# Altium footprint library C0402C689C5GACTU.PcbLib: 3 footprints
Each footprint in its own frame and in the unit in brackets; x right, y up, seen from the top. Pads: shape width x height; smd on the part's side, far side on the other; paste and mask are expansions set on the pad; w line width, h text height; cw(c..) or ccw(c..) is an arc to the next point about the centre after c.
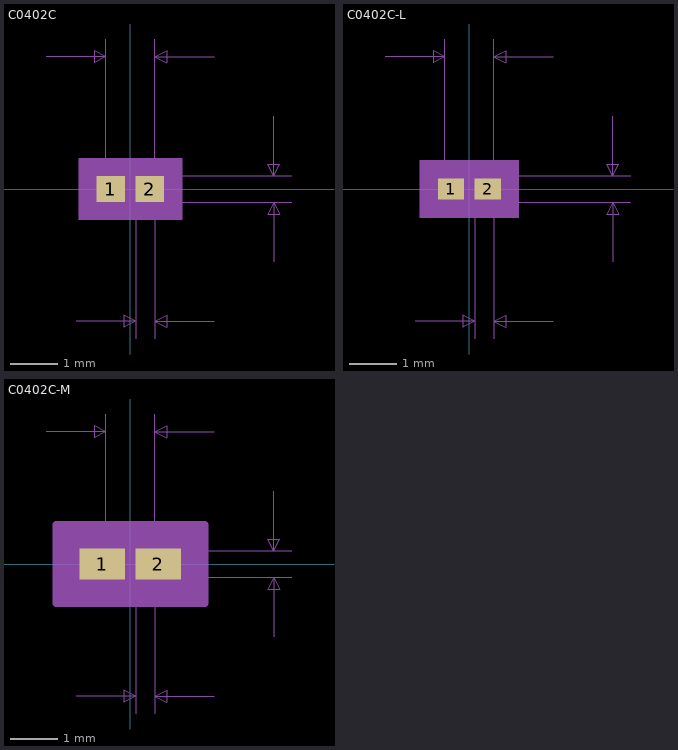
[diagram p0: the footprints below, top view; thin cyan lines are the x and y axes]

## C0402C [mil]
pads (2):
  rect 24x22 smd paste+0 mask+0: 1(-16.5,0) 2(16.5,0)
Mechanical 5:
  region: 43.5,-26 -43.5,-26 -43.5,26 43.5,26
Mechanical 7:
  lines w1: -70.5,111 -20.5,111 ; -45.5,-111 4.5,-111 ; -20.5,0 -20.5,126 ; 0,-11 135.5,-11 ; 0,11 135.5,11 ; 4.5,-126 4.5,0 ; 20.5,-126 20.5,0 20.5,126 ; 70.5,-111 20.5,-111 ; 70.5,111 20.5,111 ; 120.5,-61 120.5,-11 ; 120.5,61 120.5,11 ; -20.5,111 -30.5,116 -30.5,106 -20.5,111 ; 4.5,-111 -5.5,-106 -5.5,-116 4.5,-111 ; 20.5,-111 30.5,-106 30.5,-116 20.5,-111 ; 20.5,111 30.5,116 30.5,106 20.5,111 ; 120.5,-11 115.5,-21 125.5,-21 120.5,-11 ; 120.5,11 115.5,21 125.5,21 120.5,11
  text "Default Padstyle: RX24Y22D0T" at -350,-281 h50
  text "Alternate 1 Padstyle: OX60Y90D30P" at -412.5,-381 h50
  text "Alternate 2 Padstyle: OX90Y60D30P" at -412.5,-481 h50
  text "0.022in/0.559mm" at 140.5,-12.5 h25
  text "0.041in/1.041mm" at -93.75,131 h25
  text "0.016in/0.406mm" at -81.25,-156 h25
Mechanical 13:
  lines w1: -20.5,-11 -20.5,11 ; -20.5,-11 -4.5,-11 -4.5,11 -20.5,11 ; -20.5,-11 20.5,-11 ; -20.5,-11 -20.5,11 ; -20.5,11 20.5,11 ; 20.5,-11 4.5,-11 4.5,11 20.5,11 ; 20.5,-11 20.5,11 ; 20.5,-11 20.5,11
Mechanical 15:
  region: 38.5,-21 -38.5,-21 -38.5,21 38.5,21
  lines w6: -38.5,-21 -38.5,21 38.5,21 38.5,-21 -38.5,-21
3D body: height 10, standoff 0, extent 0,0 10,10

## C0402C-L [mil]
pads (2):
  rect 22x18 smd paste+0 mask+0: 1(-15.5,0) 2(15.5,0)
Mechanical 5:
  region: 41.5,-24 -41.5,-24 -41.5,24 41.5,24
Mechanical 7:
  lines w1: -70.5,111 -20.5,111 ; -45.5,-111 4.5,-111 ; -20.5,0 -20.5,126 ; 0,-11 135.5,-11 ; 0,11 135.5,11 ; 4.5,-126 4.5,0 ; 20.5,-126 20.5,0 20.5,126 ; 70.5,-111 20.5,-111 ; 70.5,111 20.5,111 ; 120.5,-61 120.5,-11 ; 120.5,61 120.5,11 ; -20.5,111 -30.5,116 -30.5,106 -20.5,111 ; 4.5,-111 -5.5,-106 -5.5,-116 4.5,-111 ; 20.5,-111 30.5,-106 30.5,-116 20.5,-111 ; 20.5,111 30.5,116 30.5,106 20.5,111 ; 120.5,-11 115.5,-21 125.5,-21 120.5,-11 ; 120.5,11 115.5,21 125.5,21 120.5,11
  text "Default Padstyle: RX22Y18D0T" at -350,-279 h50
  text "Alternate 1 Padstyle: OX60Y90D30P" at -412.5,-379 h50
  text "Alternate 2 Padstyle: OX90Y60D30P" at -412.5,-479 h50
  text "0.022in/0.559mm" at 140.5,-12.5 h25
  text "0.041in/1.041mm" at -93.75,131 h25
  text "0.016in/0.406mm" at -81.25,-156 h25
Mechanical 13:
  lines w1: -20.5,-11 -20.5,11 ; -20.5,-11 -4.5,-11 -4.5,11 -20.5,11 ; -20.5,-11 20.5,-11 ; -20.5,-11 -20.5,11 ; -20.5,11 20.5,11 ; 20.5,-11 4.5,-11 4.5,11 20.5,11 ; 20.5,-11 20.5,11 ; 20.5,-11 20.5,11
Mechanical 15:
  region: 30.5,-13 -30.5,-13 -30.5,13 30.5,13
  lines w6: -30.5,-13 -30.5,13 30.5,13 30.5,-13 -30.5,-13
3D body: height 10, standoff 0, extent 0,0 10,10

## C0402C-M [mil]
pads (2):
  rect 38x26 smd paste+0 mask+0: 1(-23.5,0) 2(23.5,0)
Mechanical 5:
  region: 57.5,-28 -57.5,-28 -57.5,28 57.5,28
Mechanical 7:
  lines w1: -70.5,111 -20.5,111 ; -45.5,-111 4.5,-111 ; -20.5,0 -20.5,126 ; 0,-11 135.5,-11 ; 0,11 135.5,11 ; 4.5,-126 4.5,0 ; 20.5,-126 20.5,0 20.5,126 ; 70.5,-111 20.5,-111 ; 70.5,111 20.5,111 ; 120.5,-61 120.5,-11 ; 120.5,61 120.5,11 ; -20.5,111 -30.5,116 -30.5,106 -20.5,111 ; 4.5,-111 -5.5,-106 -5.5,-116 4.5,-111 ; 20.5,-111 30.5,-106 30.5,-116 20.5,-111 ; 20.5,111 30.5,116 30.5,106 20.5,111 ; 120.5,-11 115.5,-21 125.5,-21 120.5,-11 ; 120.5,11 115.5,21 125.5,21 120.5,11
  text "Default Padstyle: RX38Y26D0T" at -350,-283 h50
  text "Alternate 1 Padstyle: OX60Y90D30P" at -412.5,-383 h50
  text "Alternate 2 Padstyle: OX90Y60D30P" at -412.5,-483 h50
  text "0.022in/0.559mm" at 140.5,-12.5 h25
  text "0.041in/1.041mm" at -93.75,131 h25
  text "0.016in/0.406mm" at -81.25,-156 h25
Mechanical 13:
  lines w1: -20.5,-11 -20.5,11 ; -20.5,-11 -4.5,-11 -4.5,11 -20.5,11 ; -20.5,-11 20.5,-11 ; -20.5,-11 -20.5,11 ; -20.5,11 20.5,11 ; 20.5,-11 4.5,-11 4.5,11 20.5,11 ; 20.5,-11 20.5,11 ; 20.5,-11 20.5,11
Mechanical 15:
  region: 62.5,-33 -62.5,-33 -62.5,33 62.5,33
  lines w6: -62.5,-33 -62.5,33 62.5,33 62.5,-33 -62.5,-33
3D body: height 10, standoff 0, extent 0,0 10,10